# EAGLE library part BQ25892 (library joule_shield)
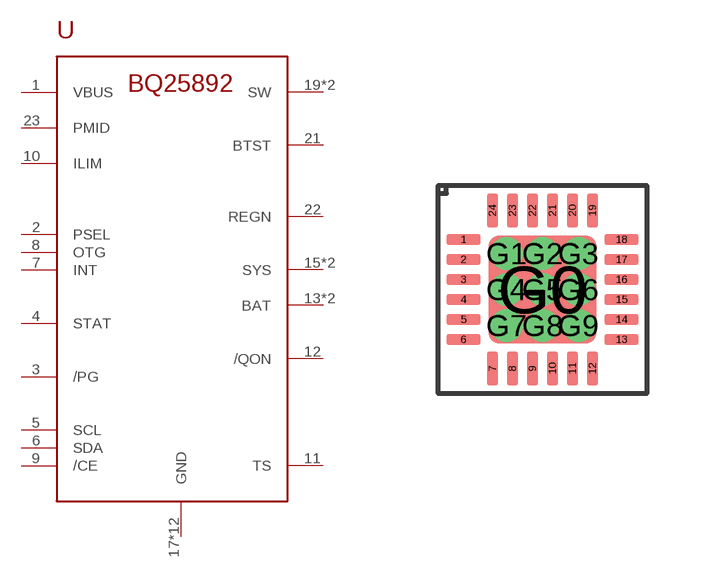
[diagram p3: symbol with the pads of PWQFN-24; footprint PWQFN-24]

Designator prefix -

## BQ25892PWQFN-24  [PWQFN-24]
1  VBUS
2  PSEL
3  /PG
4  STAT
5  SCL
6  SDA
7  INT
8  OTG
9  /CE
10  ILIM
11  TS
12  /QON
13  BAT
14  BAT
15  SYS
16  SYS
17  GND
18  GND
19  SW
20  SW
21  BTST
22  REGN
23  PMID
G0  GND
G1  GND
G2  GND
G3  GND
G4  GND
G5  GND
G6  GND
G7  GND
G8  GND
G9  GND

## Footprint PWQFN-24 (pad centres in mm)
smd 0.85 x 0.28: 1 -1.975,1.25; 2 -1.975,0.75; 3 -1.975,0.25; 4 -1.975,-0.25; 5 -1.975,-0.75; 6 -1.975,-1.25; 13 1.975,-1.25; 14 1.975,-0.75; 15 1.975,-0.25; 16 1.975,0.25; 17 1.975,0.75; 18 1.975,1.25
smd 0.28 x 0.85: 7 -1.25,-1.975; 8 -0.75,-1.975; 9 -0.25,-1.975; 10 0.25,-1.975; 11 0.75,-1.975; 12 1.25,-1.975; 19 1.25,1.975; 20 0.75,1.975; 21 0.25,1.975; 22 -0.25,1.975; 23 -0.75,1.975; 24 -1.25,1.975
smd 2.7 x 2.7: G0 0,0
drill 0.305 pad 0.6: G1 -0.9,0.9; G2 0,0.9; G3 0.9,0.9; G4 -0.9,0; G5 0,0; G6 0.9,0; G7 -0.9,-0.9; G8 0,-0.9; G9 0.9,-0.9